# Altium footprint library PEI_PCB_1.1.PcbLib: 310 footprints (part 17 of 20)
Each footprint in its own frame and in the unit in brackets; x right, y up, seen from the top. Pads: shape width x height; smd on the part's side, far side on the other; paste and mask are expansions set on the pad; w line width, h text height; cw(c..) or ccw(c..) is an arc to the next point about the centre after c.
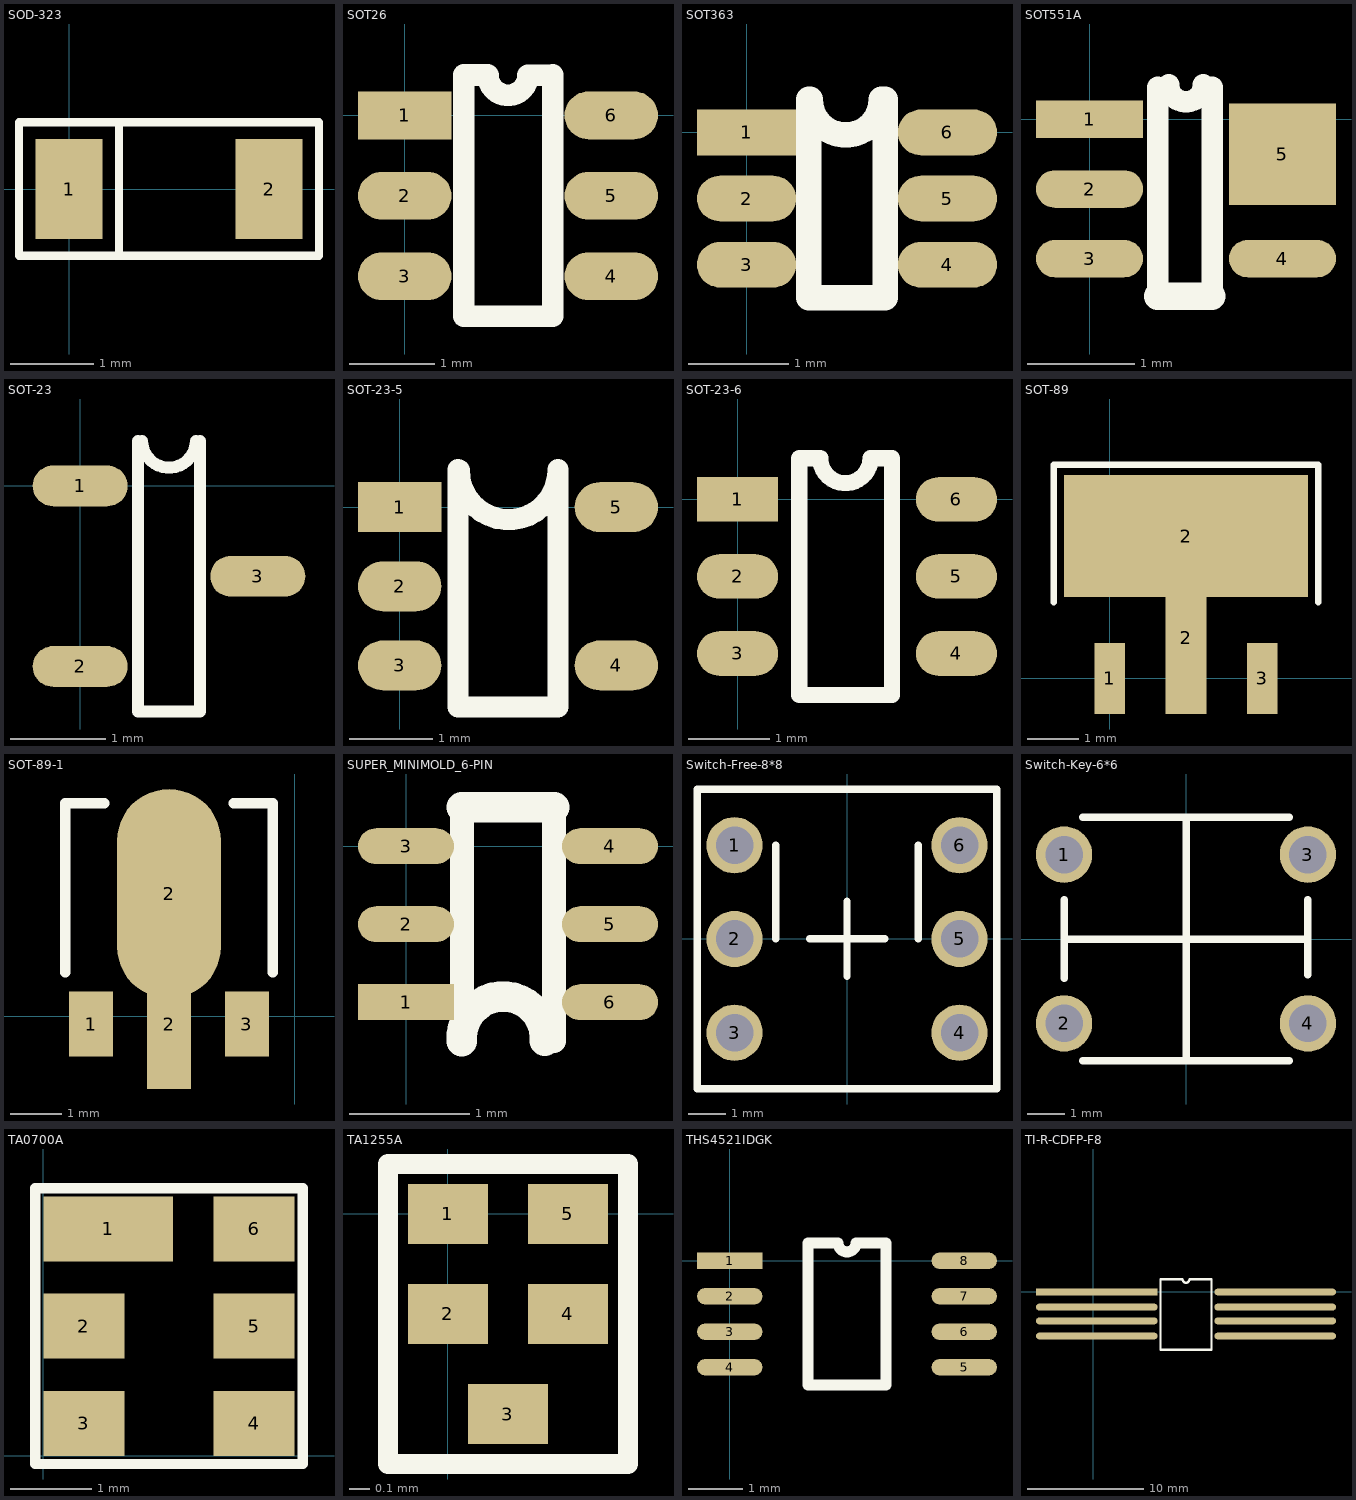
[diagram p16: the footprints below, top view; thin cyan lines are the x and y axes]

## SOD-323 [mm]
pads (2):
  rect 0.8x1.2 smd: 1(0,0) 2(2.4,0)
TopOverlay:
  lines w0.1: 0.6,-0.8 0.6,0.8 ; 0.6,-0.8 3,-0.8 3,0.8 0.6,0.8 ; 0.6,-0.8 -0.6,-0.8 -0.6,0.8 0.6,0.8

## SOT26 [mil]
pads (6):
  rect 43x22 smd: 1(0,0)
  oval 43x22 smd: 2(0,-37) 3(0,-74) 4(95,-74) 5(95,-37) 6(95,0)
TopOverlay:
  lines w10: 27.2,-92.4 27.2,18.6 38.15,18.6 ; 28.7,-92.4 68.1,-92.4 68.1,18.6 ; 38.25,18.5 ccw(c47.5,18.5) 56.75,18.5 68,18.5

## SOT363 [mil]
pads (6):
  rect 39x18 smd: 1(0,0)
  oval 39x18 smd: 2(0,-26) 3(0,-52) 4(79,-52) 5(79,-26) 6(79,0)
TopOverlay:
  lines w10: 24.5,13 24.5,-65 54.5,-65 54.5,13 ; 25,13 ccw(c39,13) 53,13

## SOT551A [mm]
pads (5):
  rect 1x0.35 smd: 1(0,0)
  oval 1x0.35 smd: 2(0,-0.65) 3(0,-1.3) 4(1.8,-1.3)
  rect 1x0.95 smd: 5(1.8,-0.325)
TopOverlay:
  lines w0.2: 0.635,-1.651 0.635,0.299 ; 0.737,0.325 ccw(c0.9,0.325) 1.063,0.325 ; 1.143,-1.651 1.143,0.299
  lines w0.254: 0.635,-1.651 1.143,-1.651

## SOT-23 [mm]
pads (3):
  oval 1x0.43 smd: 1(0,0) 2(0,-1.9) 3(1.87,-0.95)
TopOverlay:
  lines w0.127: 0.608,0.475 0.608,-2.375 1.262,-2.375 1.262,0.475 ; 0.652,0.475 ccw(c0.935,0.475) 1.218,0.475

## SOT-23-5 [mm]
pads (5):
  rect 1x0.6 smd: 1(0,0)
  oval 1x0.6 smd: 2(0,-0.95) 3(0,-1.9) 4(2.6,-1.9) 5(2.6,0)
TopOverlay:
  lines w0.254: 0.7,0.45 0.7,-2.4 1.9,-2.4 1.9,0.45 cw(c1.308,0.442) 0.715,0.442

## SOT-23-6 [mm]
pads (6):
  rect 1x0.55 smd: 1(0,0)
  oval 1x0.55 smd: 2(0,-0.95) 3(0,-1.9) 4(2.7,-1.9) 5(2.7,-0.95) 6(2.7,0)
TopOverlay:
  lines w0.2: 0.762,0.508 0.762,-2.413 1.905,-2.413 1.905,0.508 1.651,0.508 ; 0.794,0.508 1.016,0.508 ; 1.02,0.51 ccw(c1.33,0.51) 1.64,0.51

## SOT-89 [mm]
pads (4):
  rect 0.6x1.4 smd: 1(0,0) 3(3,0)
  rect 0.8x3 smd: 2(1.5,0.8)
  rect 4.8x2.4 smd: 2(1.5,2.8)
TopOverlay:
  lines w0.127: -1.1,1.5 -1.1,4.2 4.1,4.2 4.1,1.5

## SOT-89-1 [mil]
pads (4):
  rect 34x50 smd: 1(-157,-6) 3(-37,-6)
  rect 34x100 smd: 2(-97,-6)
  oval 80.08x161.42 smd: 2(-97,94.4)
TopOverlay:
  lines w8: -177,34 -177,164 -147,164 ; -47,164 -17,164 -17,34

## SUPER_MINIMOLD_6-PIN [mm]
pads (6):
  rect 0.8x0.3 smd: 1(0,-1.3)
  oval 0.8x0.3 smd: 2(0,-0.65) 3(0,0) 4(1.7,0) 5(1.7,-0.65) 6(1.7,-1.3)
TopOverlay:
  lines w0.2: 0.465,-1.625 0.465,0.325 ; 1.235,-1.625 1.235,0.325
  lines w0.254: 0.465,-1.625 cw(c0.811,-1.599) 1.157,-1.62 ; 0.465,0.325 1.235,0.325

## Switch-Free-8*8 [mm]
pads (6):
  round 1.5 hole 1: 1(-3,2.5) 2(-3,0) 3(-3,-2.5) 4(3,-2.5) 5(3,0) 6(3,2.5)
TopOverlay:
  lines w0.2: -1.9,0 -1.9,2.5 ; -1,0 1,0 ; 0,-1 0,1 ; 1.9,0 1.9,2.5 ; -4,-4 -4,4 4,4 4,-4 -4,-4

## Switch-Key-6*6 [mm]
pads (4):
  round 1.5 hole 1: 1(-3.25,2.25) 2(-3.25,-2.25) 3(3.25,2.25) 4(3.25,-2.25)
TopOverlay:
  lines w0.2: -3.25,-1.05 -3.25,1.05 ; -3.25,0 3.25,0 ; -2.75,-3.25 2.75,-3.25 ; -2.75,3.25 2.75,3.25 ; 0,-3.25 0,3.25 ; 3.25,-0.95 3.25,1.05

## TA0700A [mm]
pads (6):
  rect 1.6x0.8 smd: 1(0.8,2.8)
  rect 1x0.8 smd: 2(0.5,1.6) 3(0.5,0.4) 4(2.6,0.4) 5(2.6,1.6) 6(2.6,2.8)
TopOverlay:
  lines w0.127: -0.1,-0.1 -0.1,3.3 3.2,3.3 3.2,-0.1 -0.1,-0.1

## TA1255A [mm]
pads (5):
  rect 0.4x0.3 smd: 1(0,0) 2(0,-0.5) 3(0.3,-1) 4(0.6,-0.5) 5(0.6,0)
TopOverlay:
  lines w0.1: -0.3,-1.25 0.9,-1.25 0.9,0.25 -0.3,0.25 -0.3,-1.25

## THS4521IDGK [mm]
pads (8):
  rect 1.2x0.3 smd: 1(0,0)
  oval 1.2x0.3 smd: 2(0,-0.65) 3(0,-1.3) 4(0,-1.95) 5(4.3,-1.95) 6(4.3,-1.3) 7(4.3,-0.65) 8(4.3,0)
TopOverlay:
  lines w0.2: 1.435,-2.275 2.865,-2.275 2.865,0.325 2.312,0.325 cw(c2.15,0.325) 1.987,0.325 1.435,0.325 1.435,-2.275

## TI-R-CDFP-F8 [mm]
pads (8):
  rect 10.5x0.6 smd: 1(0.3,0)
  oval 10.5x0.6 smd: 2(0.3,-1.3) 3(0.3,-2.5) 4(0.3,-3.8) 5(15.7,-3.8) 6(15.7,-2.5) 7(15.7,-1.3) 8(15.7,0)
TopOverlay:
  lines w0.2: 5.8,-5 5.8,1.1 7.7,1.1 ccw(c8,1.1) 8.3,1.1 10.2,1.1 10.2,-5 5.8,-5